# Altium integrated library TI Power Management Power Supply Support.IntLib: 88 symbols (part 2 of 4)
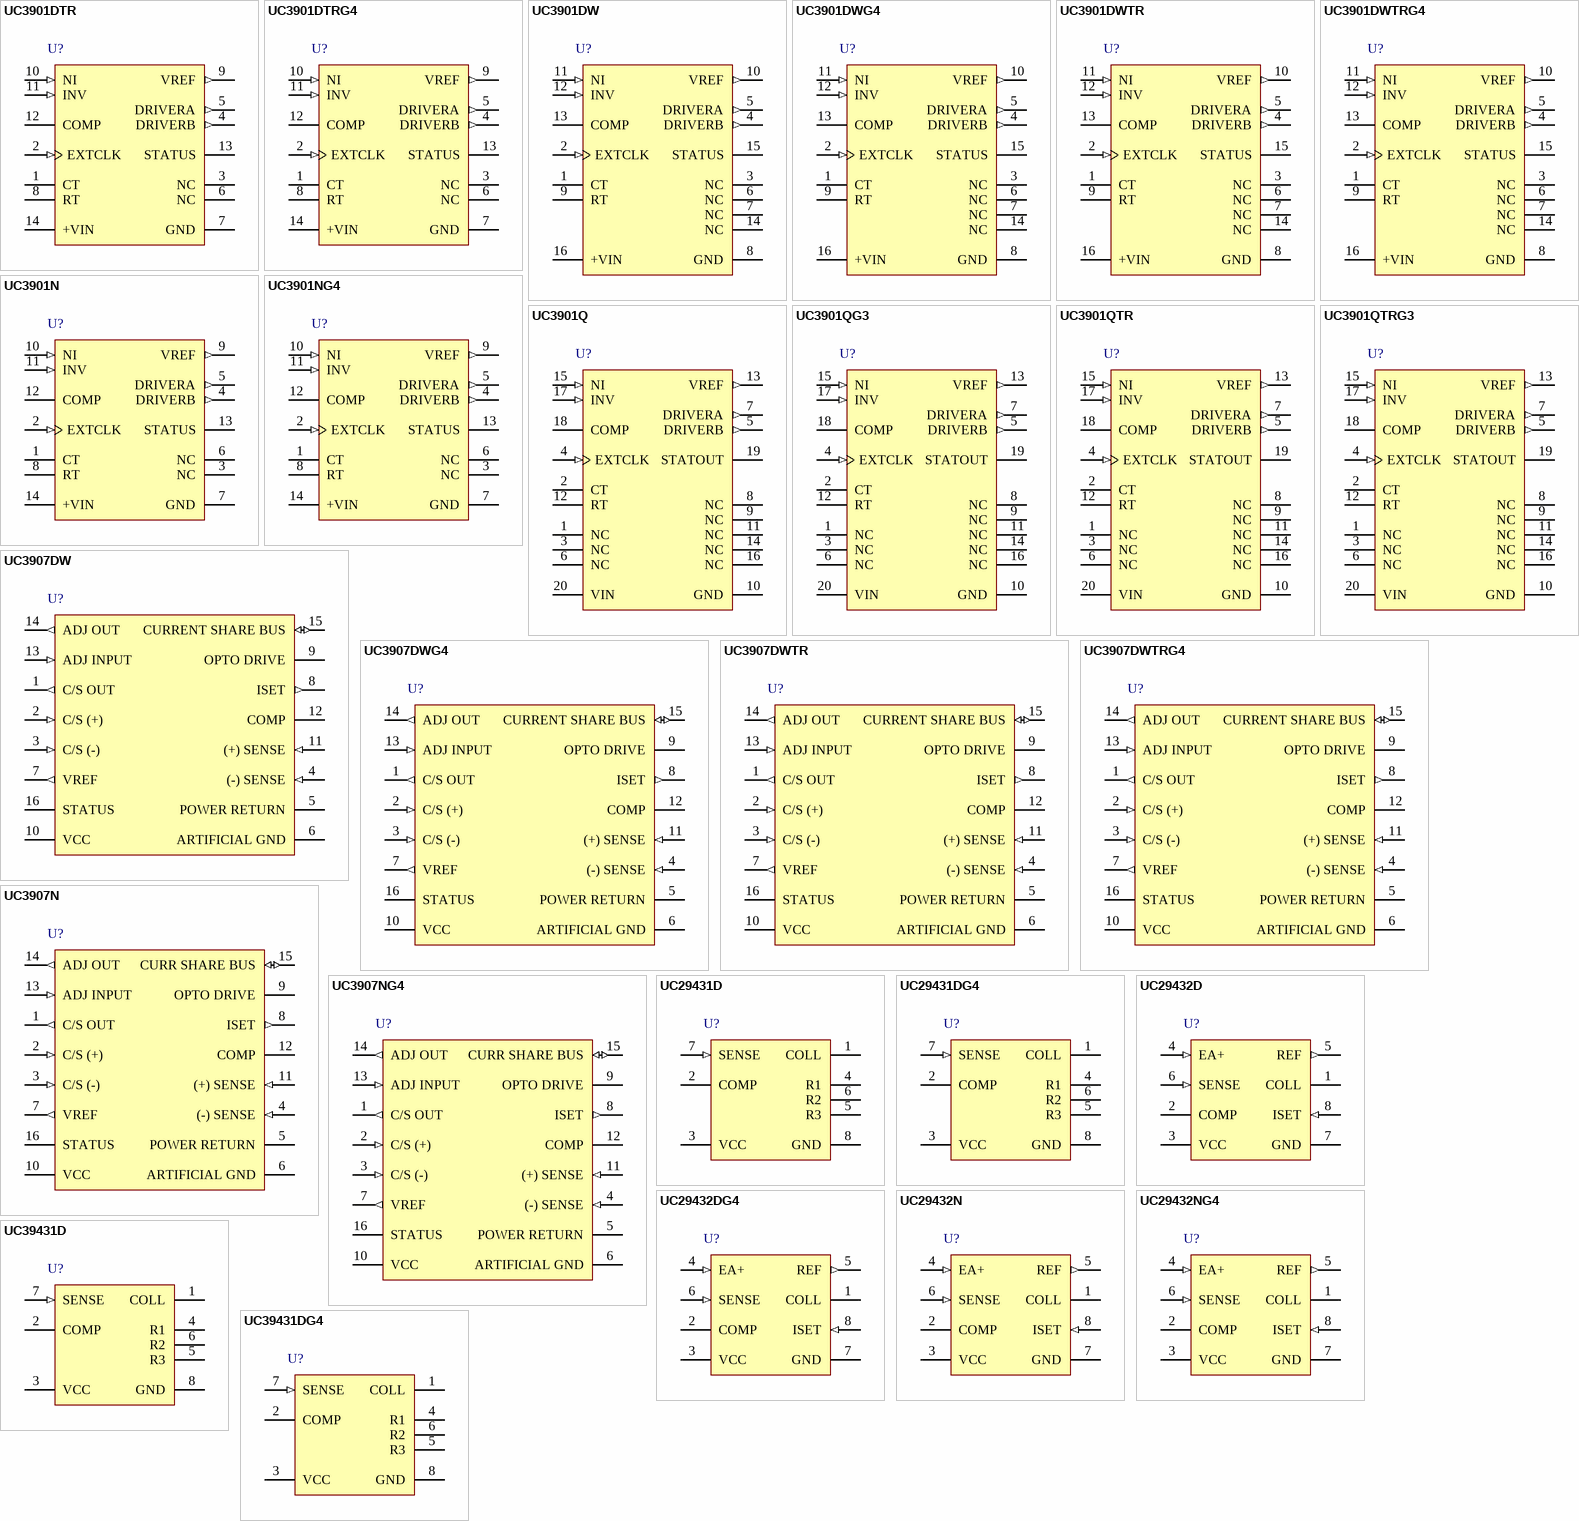
[diagram p3: symbols UC3901DTR to UC39431DG4]

## UC3901QTR
designator U?
Isolated Feedback Generator, 4.5 to 40 V, 0 to 70 degC, 20-pin PLCC (FN), Green (RoHS & no Sb/Br); Manufacturer: Texas Instruments; PartNumber: UC3901QTR; On Board Oscillator: Useable to 5 MHz; On Board Reference: Yes; Operating Supply Current(mA): 5; Operating Supply(Max)(V): 40; Operating Supply(Min)(V): 4.5; Output Current(A): 0.035; Rating: Catalog; Reference Voltage(V): 1.5; UVLO: TRUE; Vref tol(%): 3; DatasheetVersion: SLUS279A; PackageVersion: revB, Mar-1995; PackageReference: FN20; PackageDescription: 20-Pin Plastic Leaded Chip Carrier, 1.27 mm Pitch; Supplier 1: Digi-Key; Supplier Part Number 1: UC3901QTR-ND; Supplier 2: Newark; Supplier Part Number 2: 77C3456; Supplier 3: Mouser; Supplier Part Number 3: 595-UC3901QTR; Mounting Technology: Surface Mount; Code_JEDEC: MS-018; ComponentLink1Description: Datasheet; ComponentLink1URL: http://www.ti.com/general/docs/lit/getliterature.tsp?genericPartNumber=UC3901&fileType=pdf
footprint FN20_N (Leaded Chip Carrier, 20-Leads, Body 9x9mm, Pitch 1.27mm, IPC Medium Density)
footprint FN20_L (Leaded Chip Carrier, 20-Leads, Body 9x9mm, Pitch 1.27mm, IPC High Density)
footprint FN20_M (Leaded Chip Carrier, 20-Leads, Body 9x9mm, Pitch 1.27mm, IPC Low Density)
pins: 1 NC, 2 CT, 3 NC, 4 EXTCLK (in), 5 DRIVERB (out), 6 NC, 7 DRIVERA (out), 8 NC, 9 NC, 10 GND (power), 11 NC, 12 RT, 13 VREF (out), 14 NC, 15 NI (in), 16 NC, 17 INV (in), 18 COMP, 19 STATOUT (oc), 20 VIN (power)

## UC3901QTRG3
designator U?
Isolated Feedback Generator, 4.5 to 40 V, 0 to 70 degC, 20-pin PLCC (FN), Green (RoHS & no Sb/Br); Manufacturer: Texas Instruments; PartNumber: UC3901QTRG3; On Board Oscillator: Useable to 5 MHz; On Board Reference: Yes; Operating Supply Current(mA): 5; Operating Supply(Max)(V): 40; Operating Supply(Min)(V): 4.5; Output Current(A): 0.035; Rating: Catalog; Reference Voltage(V): 1.5; UVLO: TRUE; Vref tol(%): 3; DatasheetVersion: SLUS279A; PackageVersion: revB, Mar-1995; PackageReference: FN20; PackageDescription: 20-Pin Plastic Leaded Chip Carrier, 1.27 mm Pitch; Supplier 1: Digi-Key; Supplier Part Number 1: UC3901QTRG3-ND; Supplier 2: Newark; Supplier Part Number 2: 70K6035; Supplier 3: Mouser; Supplier Part Number 3: 595-UC3901QTRG3; Mounting Technology: Surface Mount; Code_JEDEC: MS-018; ComponentLink1Description: Datasheet; ComponentLink1URL: http://www.ti.com/general/docs/lit/getliterature.tsp?genericPartNumber=UC3901&fileType=pdf
footprint FN20_N (Leaded Chip Carrier, 20-Leads, Body 9x9mm, Pitch 1.27mm, IPC Medium Density)
footprint FN20_L (Leaded Chip Carrier, 20-Leads, Body 9x9mm, Pitch 1.27mm, IPC High Density)
footprint FN20_M (Leaded Chip Carrier, 20-Leads, Body 9x9mm, Pitch 1.27mm, IPC Low Density)
pins: 1 NC, 2 CT, 3 NC, 4 EXTCLK (in), 5 DRIVERB (out), 6 NC, 7 DRIVERA (out), 8 NC, 9 NC, 10 GND (power), 11 NC, 12 RT, 13 VREF (out), 14 NC, 15 NI (in), 16 NC, 17 INV (in), 18 COMP, 19 STATOUT (oc), 20 VIN (power)

## UC3907DW
designator U?
Load Share Controller with on Board Ref, 4.5 to 36 V Supply, 0 to 70 degC, 16-pin SOIC (DW), Green (RoHS & no Sb/Br); Manufacturer: Texas Instruments; PartNumber: UC3907DW; On Board Reference: TRUE; Operating Supply Current(mA): 6; Operating Supply(Max)(V): 36; Operating Supply(Min)(V): 4.5; Rating: Military; Share Bus: Single-Ended; Startup Current(uA): 3000; DatasheetVersion: SLUS165C; PackageVersion: revG, Jan-2011; PackageReference: DW16; PackageDescription: 16-Pin Small Outline Integrated Circuit, 10.3 x 7.5 mm, Pitch 1.27 mm Pitch; Supplier 1: Digi-Key; Supplier Part Number 1: 296-2530-5-ND; Supplier 2: Newark; Supplier Part Number 2: 77C3472; Supplier 3: Mouser; Supplier Part Number 3: 595-UC3907DW; Eco-Plan: Green (RoHS & no Sb/Br); SubFamily: Load Share; Mounting Technology: Surface Mount; Code_JEDEC: MS-013-AA; ComponentLink1Description: Datasheet; ComponentLink1URL: http://www.ti.com/general/docs/lit/getliterature.tsp?genericPartNumber=UC3907&fileType=pdf
footprint DW16_N (SOIC, 16-Leads, Body 10.3x7.5mm, Pitch 1.27mm, IPC Medium Density)
footprint DW16_L (SOIC, 16-Leads, Body 10.3x7.5mm, Pitch 1.27mm, IPC High Density)
footprint DW16_M (SOIC, 16-Leads, Body 10.3x7.5mm, Pitch 1.27mm, IPC Low Density)
pins: 1 C/S OUT (out), 2 C/S (+) (in), 3 C/S (-) (in), 4 (-) SENSE (in), 5 POWER RETURN, 6 ARTIFICIAL GND (power), 7 VREF (out), 8 ISET (out), 9 OPTO DRIVE (oc), 10 VCC (power), 11 (+) SENSE (in), 12 COMP, 13 ADJ INPUT (in), 14 ADJ OUT (out), 15 CURRENT SHARE BUS (io), 16 STATUS (oc)

## UC3907DWG4
designator U?
Load Share Controller with on Board Ref, 4.5 to 36 V Supply, 0 to 70 degC, 16-pin SOIC (DW), Green (RoHS & no Sb/Br); Manufacturer: Texas Instruments; PartNumber: UC3907DWG4; On Board Reference: TRUE; Operating Supply Current(mA): 6; Operating Supply(Max)(V): 36; Operating Supply(Min)(V): 4.5; Rating: Military; Share Bus: Single-Ended; Startup Current(uA): 3000; DatasheetVersion: SLUS165C; PackageVersion: revG, Jan-2011; PackageReference: DW16; PackageDescription: 16-Pin Small Outline Integrated Circuit, 10.3 x 7.5 mm, Pitch 1.27 mm Pitch; Supplier 1: Digi-Key; Supplier Part Number 1: UC3907DWG4-ND; Supplier 2: Newark; Supplier Part Number 2: 66K4934; Supplier 3: Mouser; Supplier Part Number 3: 595-UC3907DWG4; Eco-Plan: Green (RoHS & no Sb/Br); SubFamily: Load Share; Mounting Technology: Surface Mount; Code_JEDEC: MS-013-AA; ComponentLink1Description: Datasheet; ComponentLink1URL: http://www.ti.com/general/docs/lit/getliterature.tsp?genericPartNumber=UC3907&fileType=pdf
footprint DW16_N (SOIC, 16-Leads, Body 10.3x7.5mm, Pitch 1.27mm, IPC Medium Density)
footprint DW16_L (SOIC, 16-Leads, Body 10.3x7.5mm, Pitch 1.27mm, IPC High Density)
footprint DW16_M (SOIC, 16-Leads, Body 10.3x7.5mm, Pitch 1.27mm, IPC Low Density)
pins: 1 C/S OUT (out), 2 C/S (+) (in), 3 C/S (-) (in), 4 (-) SENSE (in), 5 POWER RETURN, 6 ARTIFICIAL GND (power), 7 VREF (out), 8 ISET (out), 9 OPTO DRIVE (oc), 10 VCC (power), 11 (+) SENSE (in), 12 COMP, 13 ADJ INPUT (in), 14 ADJ OUT (out), 15 CURRENT SHARE BUS (io), 16 STATUS (oc)

## UC3907DWTR
designator U?
Load Share Controller with on Board Ref, 4.5 to 36 V Supply, 0 to 70 degC, 16-pin SOIC (DW), Green (RoHS & no Sb/Br); Manufacturer: Texas Instruments; PartNumber: UC3907DWTR; On Board Reference: TRUE; Operating Supply Current(mA): 6; Operating Supply(Max)(V): 36; Operating Supply(Min)(V): 4.5; Rating: Military; Share Bus: Single-Ended; Startup Current(uA): 3000; DatasheetVersion: SLUS165C; PackageVersion: revG, Jan-2011; PackageReference: DW16; PackageDescription: 16-Pin Small Outline Integrated Circuit, 10.3 x 7.5 mm, Pitch 1.27 mm Pitch; Supplier 1: Digi-Key; Supplier Part Number 1: UC3907DWTR-ND; Supplier 2: Newark; Supplier Part Number 2: 77C3473; Supplier 3: Mouser; Supplier Part Number 3: 595-UC3907DWTR; Eco-Plan: Green (RoHS & no Sb/Br); SubFamily: Load Share; Mounting Technology: Surface Mount; Code_JEDEC: MS-013-AA; ComponentLink1Description: Datasheet; ComponentLink1URL: http://www.ti.com/general/docs/lit/getliterature.tsp?genericPartNumber=UC3907&fileType=pdf
footprint DW16_N (SOIC, 16-Leads, Body 10.3x7.5mm, Pitch 1.27mm, IPC Medium Density)
footprint DW16_L (SOIC, 16-Leads, Body 10.3x7.5mm, Pitch 1.27mm, IPC High Density)
footprint DW16_M (SOIC, 16-Leads, Body 10.3x7.5mm, Pitch 1.27mm, IPC Low Density)
pins: 1 C/S OUT (out), 2 C/S (+) (in), 3 C/S (-) (in), 4 (-) SENSE (in), 5 POWER RETURN, 6 ARTIFICIAL GND (power), 7 VREF (out), 8 ISET (out), 9 OPTO DRIVE (oc), 10 VCC (power), 11 (+) SENSE (in), 12 COMP, 13 ADJ INPUT (in), 14 ADJ OUT (out), 15 CURRENT SHARE BUS (io), 16 STATUS (oc)

## UC3907DWTRG4
designator U?
Load Share Controller with on Board Ref, 4.5 to 36 V Supply, 0 to 70 degC, 16-pin SOIC (DW), Green (RoHS & no Sb/Br); Manufacturer: Texas Instruments; PartNumber: UC3907DWTRG4; On Board Reference: TRUE; Operating Supply Current(mA): 6; Operating Supply(Max)(V): 36; Operating Supply(Min)(V): 4.5; Rating: Military; Share Bus: Single-Ended; Startup Current(uA): 3000; DatasheetVersion: SLUS165C; PackageVersion: revG, Jan-2011; PackageReference: DW16; PackageDescription: 16-Pin Small Outline Integrated Circuit, 10.3 x 7.5 mm, Pitch 1.27 mm Pitch; Supplier 1: Digi-Key; Supplier Part Number 1: UC3907DWTRG4-ND; Supplier 2: Newark; Supplier Part Number 2: 71J8483; Supplier 3: Mouser; Supplier Part Number 3: 595-UC3907DWTRG4; Eco-Plan: Green (RoHS & no Sb/Br); SubFamily: Load Share; Mounting Technology: Surface Mount; Code_JEDEC: MS-013-AA; ComponentLink1Description: Datasheet; ComponentLink1URL: http://www.ti.com/general/docs/lit/getliterature.tsp?genericPartNumber=UC3907&fileType=pdf
footprint DW16_N (SOIC, 16-Leads, Body 10.3x7.5mm, Pitch 1.27mm, IPC Medium Density)
footprint DW16_L (SOIC, 16-Leads, Body 10.3x7.5mm, Pitch 1.27mm, IPC High Density)
footprint DW16_M (SOIC, 16-Leads, Body 10.3x7.5mm, Pitch 1.27mm, IPC Low Density)
pins: 1 C/S OUT (out), 2 C/S (+) (in), 3 C/S (-) (in), 4 (-) SENSE (in), 5 POWER RETURN, 6 ARTIFICIAL GND (power), 7 VREF (out), 8 ISET (out), 9 OPTO DRIVE (oc), 10 VCC (power), 11 (+) SENSE (in), 12 COMP, 13 ADJ INPUT (in), 14 ADJ OUT (out), 15 CURRENT SHARE BUS (io), 16 STATUS (oc)

## UC3907N
designator U?
Load Share Controller with on Board Ref, 4.5 to 36 V Supply, 0 to 70 degC, 16-pin PDIP (N), Green (RoHS & no Sb/Br); Manufacturer: Texas Instruments; PartNumber: UC3907N; On Board Reference: TRUE; Operating Supply Current(mA): 6; Operating Supply(Max)(V): 36; Operating Supply(Min)(V): 4.5; Rating: Military; Share Bus: Single-Ended; Startup Current(uA): 3000; DatasheetVersion: SLUS165C; PackageVersion: revE, Dec-2002; PackageReference: N16; PackageDescription: 16-Pin Plastic Dual-In-Line Package, Row Spacing 7.62 mm, Pitch 2.54 mm; Supplier 1: Digi-Key; Supplier Part Number 1: 296-11344-5-ND; Supplier 2: Newark; Supplier Part Number 2: 77C3474; Supplier 3: Mouser; Supplier Part Number 3: 595-UC3907N; Eco-Plan: Green (RoHS & no Sb/Br); SubFamily: Load Share; Mounting Technology: Through Hole; Code_JEDEC: MS-001*; ComponentLink1Description: Datasheet; ComponentLink1URL: http://www.ti.com/general/docs/lit/getliterature.tsp?genericPartNumber=UC3907&fileType=pdf
footprint N16 (DIP, 16-Leads, Row Spacing 7.62mm, Pitch 2.54mm, Body 19.3x6.4mm)
pins: 1 C/S OUT (out), 2 C/S (+) (in), 3 C/S (-) (in), 4 (-) SENSE (in), 5 POWER RETURN, 6 ARTIFICIAL GND (power), 7 VREF (out), 8 ISET (out), 9 OPTO DRIVE (oc), 10 VCC (power), 11 (+) SENSE (in), 12 COMP, 13 ADJ INPUT (in), 14 ADJ OUT (out), 15 CURR SHARE BUS (io), 16 STATUS (oc)

## UC3907NG4
designator U?
Load Share Controller with on Board Ref, 4.5 to 36 V Supply, 0 to 70 degC, 16-pin PDIP (N), Green (RoHS & no Sb/Br); Manufacturer: Texas Instruments; PartNumber: UC3907NG4; On Board Reference: TRUE; Operating Supply Current(mA): 6; Operating Supply(Max)(V): 36; Operating Supply(Min)(V): 4.5; Rating: Military; Share Bus: Single-Ended; Startup Current(uA): 3000; DatasheetVersion: SLUS165C; PackageVersion: revE, Dec-2002; PackageReference: N16; PackageDescription: 16-Pin Plastic Dual-In-Line Package, Row Spacing 7.62 mm, Pitch 2.54 mm; Supplier 1: Digi-Key; Supplier Part Number 1: UC3907NG4-ND; Supplier 2: Farnell; Supplier Part Number 2: 1234802; Supplier 3: Newark; Supplier Part Number 3: 13M3408; Supplier 4: Newark; Supplier Part Number 4: 58K7140; Supplier 5: Mouser; Supplier Part Number 5: 595-UC3907NG4; Eco-Plan: Green (RoHS & no Sb/Br); SubFamily: Load Share; Mounting Technology: Through Hole; Code_JEDEC: MS-001*; ComponentLink1Description: Datasheet; ComponentLink1URL: http://www.ti.com/general/docs/lit/getliterature.tsp?genericPartNumber=UC3907&fileType=pdf
footprint N16 (DIP, 16-Leads, Row Spacing 7.62mm, Pitch 2.54mm, Body 19.3x6.4mm)
pins: 1 C/S OUT (out), 2 C/S (+) (in), 3 C/S (-) (in), 4 (-) SENSE (in), 5 POWER RETURN, 6 ARTIFICIAL GND (power), 7 VREF (out), 8 ISET (out), 9 OPTO DRIVE (oc), 10 VCC (power), 11 (+) SENSE (in), 12 COMP, 13 ADJ INPUT (in), 14 ADJ OUT (out), 15 CURR SHARE BUS (io), 16 STATUS (oc)

## UC29431D
designator U?
Precision Adjustable Shunt Regulator, 2.2 to 36 V, -40 to 85 degC, 8-pin SOIC (D), Green (RoHS & no Sb/Br); Manufacturer: Texas Instruments; PartNumber: UC29431D; On Board Reference: 2.82, 3.12, 5.1, 7.8, 10.42, 12.24/0.7%; Operating Supply Current(mA): 0.5; Operating Supply(Max)(V): 36; Operating Supply(Min)(V): 2.2; Output Current(A): 0.1; Rating: Catalog; Reference Voltage(V): 1.3; Vref tol(%): 0.8; DatasheetVersion: SLUS192; PackageVersion: revM, Jun-2011; PackageReference: D8; PackageDescription: 8-Pin Plastic Small Outline Integrated Circuit, 4.9 x 3.9 mm, Pitch 1.27 mm Pitch; Supplier 1: Digi-Key; Supplier Part Number 1: 296-11209-5-ND; Supplier 2: Newark; Supplier Part Number 2: 77C3109; Supplier 3: Mouser; Supplier Part Number 3: 595-UC29431D; Mounting Technology: Surface Mount; Code_JEDEC: MS-012AA; ComponentLink1Description: Datasheet; ComponentLink1URL: http://www.ti.com/general/docs/lit/getliterature.tsp?genericPartNumber=UC29431&fileType=pdf
footprint D8_N (SOIC, 8-Leads, Body 4.9x3.9mm, Pitch 1.27mm, IPC Medium Density)
footprint D8_L (SOIC, 8-Leads, Body 4.9x3.9mm, Pitch 1.27mm, IPC High Density)
footprint D8_M (SOIC, 8-Leads, Body 4.9x3.9mm, Pitch 1.27mm, IPC Low Density)
pins: 1 COLL (oc) "The collector of the output transistor with a maximum voltage of 36V. This pin is the output of the transconductance amplifier. The overall open loop voltage gain of the transconductance amplifier is gm . RL, where gm is (See Datasheet)", 2 COMP "The output of the error amplifier and the input to the transconductance amplifier. This pin is available to compensate the high frequency gain of the error amplifier. It is internally voltage limited to approximately 2.0V.", 3 VCC (power) "The power connection for the device. The minimum to maximum operating voltage is 2.2V to 36.0V. The quiescent current is typically 0.50mA.", 4 R1 "Connection points to the three internal resistors.", 5 R3 "Connection points to the three internal resistors.", 6 R2 "Connection points to the three internal resistors.", 7 SENSE (in) "The inverting terminal of the error amplifier used as both the voltage sense input to the error amplifier and its other compensation point. The error amplifier uses the SENSE input to compare against the 1.3V on-chip (See Datasheet)", 8 GND (power) "The reference and power ground for the device. The power ground of the output transistor is isolated on the chip from the substrate ground used to bias the remainder of the device."

## UC29431DG4
designator U?
Precision Adjustable Shunt Regulator, 2.2 to 36 V, -40 to 85 degC, 8-pin SOIC (D), Green (RoHS & no Sb/Br); Manufacturer: Texas Instruments; PartNumber: UC29431DG4; On Board Reference: 2.82, 3.12, 5.1, 7.8, 10.42, 12.24/0.7%; Operating Supply Current(mA): 0.5; Operating Supply(Max)(V): 36; Operating Supply(Min)(V): 2.2; Output Current(A): 0.1; Rating: Catalog; Reference Voltage(V): 1.3; Vref tol(%): 0.8; DatasheetVersion: SLUS192; PackageVersion: revM, Jun-2011; PackageReference: D8; PackageDescription: 8-Pin Plastic Small Outline Integrated Circuit, 4.9 x 3.9 mm, Pitch 1.27 mm Pitch; Supplier 1: Digi-Key; Supplier Part Number 1: UC29431DG4-ND; Supplier 2: Newark; Supplier Part Number 2: 70K5992; Supplier 3: Mouser; Supplier Part Number 3: 595-UC29431DG4; Mounting Technology: Surface Mount; Code_JEDEC: MS-012AA; ComponentLink1Description: Datasheet; ComponentLink1URL: http://www.ti.com/general/docs/lit/getliterature.tsp?genericPartNumber=UC29431&fileType=pdf
footprint D8_N (SOIC, 8-Leads, Body 4.9x3.9mm, Pitch 1.27mm, IPC Medium Density)
footprint D8_L (SOIC, 8-Leads, Body 4.9x3.9mm, Pitch 1.27mm, IPC High Density)
footprint D8_M (SOIC, 8-Leads, Body 4.9x3.9mm, Pitch 1.27mm, IPC Low Density)
pins: 1 COLL (oc) "The collector of the output transistor with a maximum voltage of 36V. This pin is the output of the transconductance amplifier. The overall open loop voltage gain of the transconductance amplifier is gm . RL, where gm is (See Datasheet)", 2 COMP "The output of the error amplifier and the input to the transconductance amplifier. This pin is available to compensate the high frequency gain of the error amplifier. It is internally voltage limited to approximately 2.0V.", 3 VCC (power) "The power connection for the device. The minimum to maximum operating voltage is 2.2V to 36.0V. The quiescent current is typically 0.50mA.", 4 R1 "Connection points to the three internal resistors.", 5 R3 "Connection points to the three internal resistors.", 6 R2 "Connection points to the three internal resistors.", 7 SENSE (in) "The inverting terminal of the error amplifier used as both the voltage sense input to the error amplifier and its other compensation point. The error amplifier uses the SENSE input to compare against the 1.3V on-chip (See Datasheet)", 8 GND (power) "The reference and power ground for the device. The power ground of the output transistor is isolated on the chip from the substrate ground used to bias the remainder of the device."

## UC29432D
designator U?
Precision Analog Controller, 2.2 to 36 V, -25 to 85 degC, 8-pin SOIC (D), Green (RoHS & no Sb/Br); Manufacturer: Texas Instruments; PartNumber: UC29432D; On Board Reference: 1.3; Operating Supply Current(mA): 0.5; Operating Supply(Max)(V): 36; Operating Supply(Min)(V): 2.2; Output Current(A): 0.1; Rating: Catalog; Vref tol(%): 0.8; DatasheetVersion: SLUS301A; PackageVersion: revM, Jun-2011; PackageReference: D8; PackageDescription: 8-Pin Plastic Small Outline Integrated Circuit, 4.9 x 3.9 mm, Pitch 1.27 mm Pitch; Supplier 1: Digi-Key; Supplier Part Number 1: 296-34734-5-ND; Supplier 2: Newark; Supplier Part Number 2: 77C3111; Supplier 3: Mouser; Supplier Part Number 3: 595-UC29432D; Reference Voltage(V): 1.3; Mounting Technology: Surface Mount; Code_JEDEC: MS-012AA; ComponentLink1Description: Datasheet; ComponentLink1URL: http://www.ti.com/general/docs/lit/getliterature.tsp?genericPartNumber=UC29432&fileType=pdf
footprint D8_N (SOIC, 8-Leads, Body 4.9x3.9mm, Pitch 1.27mm, IPC Medium Density)
footprint D8_L (SOIC, 8-Leads, Body 4.9x3.9mm, Pitch 1.27mm, IPC High Density)
footprint D8_M (SOIC, 8-Leads, Body 4.9x3.9mm, Pitch 1.27mm, IPC Low Density)
pins: 1 COLL (oc) "The collector of the output transistor with a maximum voltage of 24 V. This pin is the output of the transconductance amplifier. The overall open loop voltage gain of the transconductance amplifier is gm . RL, where gm is (See Datasheet)", 2 COMP "The output of the error amplifier and the input to the transconductance amplifier. This pin is available to compensate the high frequency gain of the error amplifier. It is internally voltage limited to approximately 2.0V.", 3 VCC (power) "The power connection for the device. The minimum to maximum operating voltage is 2.2V to 36.0V. The quiescent current is typically 0.50mA.", 4 EA+ (in) "The non-inverting input to the error amplifier.", 5 REF (out) "The output of the trimmed precision reference.It can source or sink 10 uA and still maintain the 1% temperature specification.", 6 SENSE (in) "The inverting terminal of the error amplifier used as both the voltage sense input to the error amplifier and its other compensation point. The error amplifier uses the SENSE input to compare against the 1.3V on-chip (See Datasheet)", 7 GND (power) "The reference and power ground for the device. The power ground of the output transistor is isolated on the chip from the substrate ground used to bias the remainder of the device.", 8 ISET (in) "The current set pin for the transconductance amplifier.The transconductance will be -140ms as specified in the electrical table if this pin is grounded.If a resistance RL is added to the ISET pin,the resulting new (See Datasheet)"

## UC29432DG4
designator U?
Precision Analog Controller, 2.2 to 36 V, -25 to 85 degC, 8-pin SOIC (D), Green (RoHS & no Sb/Br); Manufacturer: Texas Instruments; PartNumber: UC29432DG4; On Board Reference: 1.3; Operating Supply Current(mA): 0.5; Operating Supply(Max)(V): 36; Operating Supply(Min)(V): 2.2; Output Current(A): 0.1; Rating: Catalog; Vref tol(%): 0.8; DatasheetVersion: SLUS301A; PackageVersion: revM, Jun-2011; PackageReference: D8; PackageDescription: 8-Pin Plastic Small Outline Integrated Circuit, 4.9 x 3.9 mm, Pitch 1.27 mm Pitch; Supplier 1: Digi-Key; Supplier Part Number 1: UC29432DG4-ND; Supplier 2: Newark; Supplier Part Number 2: 70K5993; Supplier 3: Mouser; Supplier Part Number 3: 595-UC29432DG4; Reference Voltage(V): 1.3; Mounting Technology: Surface Mount; Code_JEDEC: MS-012AA; ComponentLink1Description: Datasheet; ComponentLink1URL: http://www.ti.com/general/docs/lit/getliterature.tsp?genericPartNumber=UC29432&fileType=pdf
footprint D8_N (SOIC, 8-Leads, Body 4.9x3.9mm, Pitch 1.27mm, IPC Medium Density)
footprint D8_L (SOIC, 8-Leads, Body 4.9x3.9mm, Pitch 1.27mm, IPC High Density)
footprint D8_M (SOIC, 8-Leads, Body 4.9x3.9mm, Pitch 1.27mm, IPC Low Density)
pins: 1 COLL (oc) "The collector of the output transistor with a maximum voltage of 24 V. This pin is the output of the transconductance amplifier. The overall open loop voltage gain of the transconductance amplifier is gm . RL, where gm is (See Datasheet)", 2 COMP "The output of the error amplifier and the input to the transconductance amplifier. This pin is available to compensate the high frequency gain of the error amplifier. It is internally voltage limited to approximately 2.0V.", 3 VCC (power) "The power connection for the device. The minimum to maximum operating voltage is 2.2V to 36.0V. The quiescent current is typically 0.50mA.", 4 EA+ (in) "The non-inverting input to the error amplifier.", 5 REF (out) "The output of the trimmed precision reference.It can source or sink 10 uA and still maintain the 1% temperature specification.", 6 SENSE (in) "The inverting terminal of the error amplifier used as both the voltage sense input to the error amplifier and its other compensation point. The error amplifier uses the SENSE input to compare against the 1.3V on-chip (See Datasheet)", 7 GND (power) "The reference and power ground for the device. The power ground of the output transistor is isolated on the chip from the substrate ground used to bias the remainder of the device.", 8 ISET (in) "The current set pin for the transconductance amplifier.The transconductance will be -140ms as specified in the electrical table if this pin is grounded.If a resistance RL is added to the ISET pin,the resulting new (See Datasheet)"

## UC29432N
designator U?
Precision Analog Controller, 2.2 to 36 V, -25 to 85 degC, 8-pin PDIP (P), Green (RoHS & no Sb/Br); Manufacturer: Texas Instruments; PartNumber: UC29432N; On Board Reference: 1.3; Operating Supply Current(mA): 0.5; Operating Supply(Max)(V): 36; Operating Supply(Min)(V): 2.2; Output Current(A): 0.1; Rating: Catalog; Vref tol(%): 0.8; DatasheetVersion: SLUS301A; PackageVersion: revE, Apr-2010; PackageReference: P8; PackageDescription: 8-Pin Plastic Dual-In-Line Package, Row Spacing 7.62 mm, Pitch 2.54 mm; Supplier 1: Digi-Key; Supplier Part Number 1: 296-34735-5-ND; Supplier 2: Newark; Supplier Part Number 2: 77C3113; Supplier 3: Mouser; Supplier Part Number 3: 595-UC29432N; Reference Voltage(V): 1.3; Mounting Technology: Through Hole; Code_JEDEC: MS-001-BA; ComponentLink1Description: Datasheet; ComponentLink1URL: http://www.ti.com/general/docs/lit/getliterature.tsp?genericPartNumber=UC29432&fileType=pdf
footprint P8 (DIP, 8-Leads, Row Spacing 7.62mm, Pitch 2.54mm, Body 9.6x6.4mm)
pins: 1 COLL (oc) "The collector of the output transistor with a maximum voltage of 24V. This pin is the output of the transconductance amplifier. The overall open loop voltage gain of the transconductance amplifier is gm . RL, where gm is (See Datasheet)", 2 COMP "The output of the error amplifier and the input to the transconductance amplifier. This pin is available to compensate the high frequency gain of the error amplifier. It is internally voltage limited to approximately 2.0V.", 3 VCC (power) "The power connection for the device. The minimum to maximum operating voltage is 2.2V to 36.0V. The quiescent current is typically 0.50mA.", 4 EA+ (in) "The non-inverting input to the error amplifier.", 5 REF (out) "The output of the trimmed precision reference.It can source or sink 10 uA and still maintain the 1% temperature specification.", 6 SENSE (in) "The inverting terminal of the error amplifier used as both the voltage sense input to the error amplifier and its other compensation point. The error amplifier uses the SENSE input to compare against the 1.3V on-chip (See Datasheet)", 7 GND (power) "The reference and power ground for the device. The power ground of the output transistor is isolated on the chip from the substrate ground used to bias the remainder of the device.", 8 ISET (in) "The current set pin for the transconductance amplifier."

## UC29432NG4
designator U?
Precision Analog Controller, 2.2 to 36 V, -25 to 85 degC, 8-pin PDIP (P), Green (RoHS & no Sb/Br); Manufacturer: Texas Instruments; PartNumber: UC29432NG4; On Board Reference: 1.3; Operating Supply Current(mA): 0.5; Operating Supply(Max)(V): 36; Operating Supply(Min)(V): 2.2; Output Current(A): 0.1; Rating: Catalog; Vref tol(%): 0.8; DatasheetVersion: SLUS301A; PackageVersion: revE, Apr-2010; PackageReference: P8; PackageDescription: 8-Pin Plastic Dual-In-Line Package, Row Spacing 7.62 mm, Pitch 2.54 mm; Supplier 1: Digi-Key; Supplier Part Number 1: UC29432NG4-ND; Supplier 2: Newark; Supplier Part Number 2: 70K5994; Supplier 3: Mouser; Supplier Part Number 3: 595-UC29432NG4; Reference Voltage(V): 1.3; Mounting Technology: Through Hole; Code_JEDEC: MS-001-BA; ComponentLink1Description: Datasheet; ComponentLink1URL: http://www.ti.com/general/docs/lit/getliterature.tsp?genericPartNumber=UC29432&fileType=pdf
footprint P8 (DIP, 8-Leads, Row Spacing 7.62mm, Pitch 2.54mm, Body 9.6x6.4mm)
pins: 1 COLL (oc) "The collector of the output transistor with a maximum voltage of 24V. This pin is the output of the transconductance amplifier. The overall open loop voltage gain of the transconductance amplifier is gm . RL, where gm is (See Datasheet)", 2 COMP "The output of the error amplifier and the input to the transconductance amplifier. This pin is available to compensate the high frequency gain of the error amplifier. It is internally voltage limited to approximately 2.0V.", 3 VCC (power) "The power connection for the device. The minimum to maximum operating voltage is 2.2V to 36.0V. The quiescent current is typically 0.50mA.", 4 EA+ (in) "The non-inverting input to the error amplifier.", 5 REF (out) "The output of the trimmed precision reference.It can source or sink 10 uA and still maintain the 1% temperature specification.", 6 SENSE (in) "The inverting terminal of the error amplifier used as both the voltage sense input to the error amplifier and its other compensation point. The error amplifier uses the SENSE input to compare against the 1.3V on-chip (See Datasheet)", 7 GND (power) "The reference and power ground for the device. The power ground of the output transistor is isolated on the chip from the substrate ground used to bias the remainder of the device.", 8 ISET (in) "The current set pin for the transconductance amplifier."

## UC39431D
designator U?
Precision Adjustable Shunt Regulator, 2.2 to 36 V, 0 to 70 degC, 8-pin SOIC (D), Green (RoHS & no Sb/Br); Manufacturer: Texas Instruments; PartNumber: UC39431D; On Board Reference: 2.82, 3.12, 5.1, 7.8, 10.42, 12.24/0.7%; Operating Supply Current(mA): 0.5; Operating Supply(Max)(V): 36; Operating Supply(Min)(V): 2.2; Output Current(A): 0.1; Rating: Catalog; Reference Voltage(V): 1.3; Vref tol(%): 0.8; DatasheetVersion: SLUS192; PackageVersion: revM, Jun-2011; PackageReference: D8; PackageDescription: 8-Pin Plastic Small Outline Integrated Circuit, 4.9 x 3.9 mm, Pitch 1.27 mm Pitch; Supplier 1: Digi-Key; Supplier Part Number 1: 296-11348-5-ND; Supplier 2: Newark; Supplier Part Number 2: 77C3486; Supplier 3: Mouser; Supplier Part Number 3: 595-UC39431D; Mounting Technology: Surface Mount; Code_JEDEC: MS-012AA; ComponentLink1Description: Datasheet; ComponentLink1URL: http://www.ti.com/general/docs/lit/getliterature.tsp?genericPartNumber=UC39431&fileType=pdf
footprint D8_N (SOIC, 8-Leads, Body 4.9x3.9mm, Pitch 1.27mm, IPC Medium Density)
footprint D8_L (SOIC, 8-Leads, Body 4.9x3.9mm, Pitch 1.27mm, IPC High Density)
footprint D8_M (SOIC, 8-Leads, Body 4.9x3.9mm, Pitch 1.27mm, IPC Low Density)
pins: 1 COLL (oc) "The collector of the output transistor with a maximum voltage of 36V. This pin is the output of the transconductance amplifier. The overall open loop voltage gain of the transconductance amplifier is gm . RL, where gm is (See Datasheet)", 2 COMP "The output of the error amplifier and the input to the transconductance amplifier. This pin is available to compensate the high frequency gain of the error amplifier. It is internally voltage limited to approximately 2.0V.", 3 VCC (power) "The power connection for the device. The minimum to maximum operating voltage is 2.2V to 36.0V. The quiescent current is typically 0.50mA.", 4 R1 "Connection points to the three internal resistors.", 5 R3 "Connection points to the three internal resistors.", 6 R2 "Connection points to the three internal resistors.", 7 SENSE (in) "The inverting terminal of the error amplifier used as both the voltage sense input to the error amplifier and its other compensation point. The error amplifier uses the SENSE input to compare against the 1.3V on-chip (See Datasheet)", 8 GND (power) "The reference and power ground for the device. The power ground of the output transistor is isolated on the chip from the substrate ground used to bias the remainder of the device."

## UC39431DG4
designator U?
Precision Adjustable Shunt Regulator, 2.2 to 36 V, 0 to 70 degC, 8-pin SOIC (D), Green (RoHS & no Sb/Br); Manufacturer: Texas Instruments; PartNumber: UC39431DG4; On Board Reference: 2.82, 3.12, 5.1, 7.8, 10.42, 12.24/0.7%; Operating Supply Current(mA): 0.5; Operating Supply(Max)(V): 36; Operating Supply(Min)(V): 2.2; Output Current(A): 0.1; Rating: Catalog; Reference Voltage(V): 1.3; Vref tol(%): 0.8; DatasheetVersion: SLUS192; PackageVersion: revM, Jun-2011; PackageReference: D8; PackageDescription: 8-Pin Plastic Small Outline Integrated Circuit, 4.9 x 3.9 mm, Pitch 1.27 mm Pitch; Supplier 1: Digi-Key; Supplier Part Number 1: UC39431DG4-ND; Supplier 2: Newark; Supplier Part Number 2: 61K2008; Supplier 3: Mouser; Supplier Part Number 3: 595-UC39431DG4; Mounting Technology: Surface Mount; Code_JEDEC: MS-012AA; ComponentLink1Description: Datasheet; ComponentLink1URL: http://www.ti.com/general/docs/lit/getliterature.tsp?genericPartNumber=UC39431&fileType=pdf
footprint D8_N (SOIC, 8-Leads, Body 4.9x3.9mm, Pitch 1.27mm, IPC Medium Density)
footprint D8_L (SOIC, 8-Leads, Body 4.9x3.9mm, Pitch 1.27mm, IPC High Density)
footprint D8_M (SOIC, 8-Leads, Body 4.9x3.9mm, Pitch 1.27mm, IPC Low Density)
pins: 1 COLL (oc) "The collector of the output transistor with a maximum voltage of 36V. This pin is the output of the transconductance amplifier. The overall open loop voltage gain of the transconductance amplifier is gm . RL, where gm is (See Datasheet)", 2 COMP "The output of the error amplifier and the input to the transconductance amplifier. This pin is available to compensate the high frequency gain of the error amplifier. It is internally voltage limited to approximately 2.0V.", 3 VCC (power) "The power connection for the device. The minimum to maximum operating voltage is 2.2V to 36.0V. The quiescent current is typically 0.50mA.", 4 R1 "Connection points to the three internal resistors.", 5 R3 "Connection points to the three internal resistors.", 6 R2 "Connection points to the three internal resistors.", 7 SENSE (in) "The inverting terminal of the error amplifier used as both the voltage sense input to the error amplifier and its other compensation point. The error amplifier uses the SENSE input to compare against the 1.3V on-chip (See Datasheet)", 8 GND (power) "The reference and power ground for the device. The power ground of the output transistor is isolated on the chip from the substrate ground used to bias the remainder of the device."

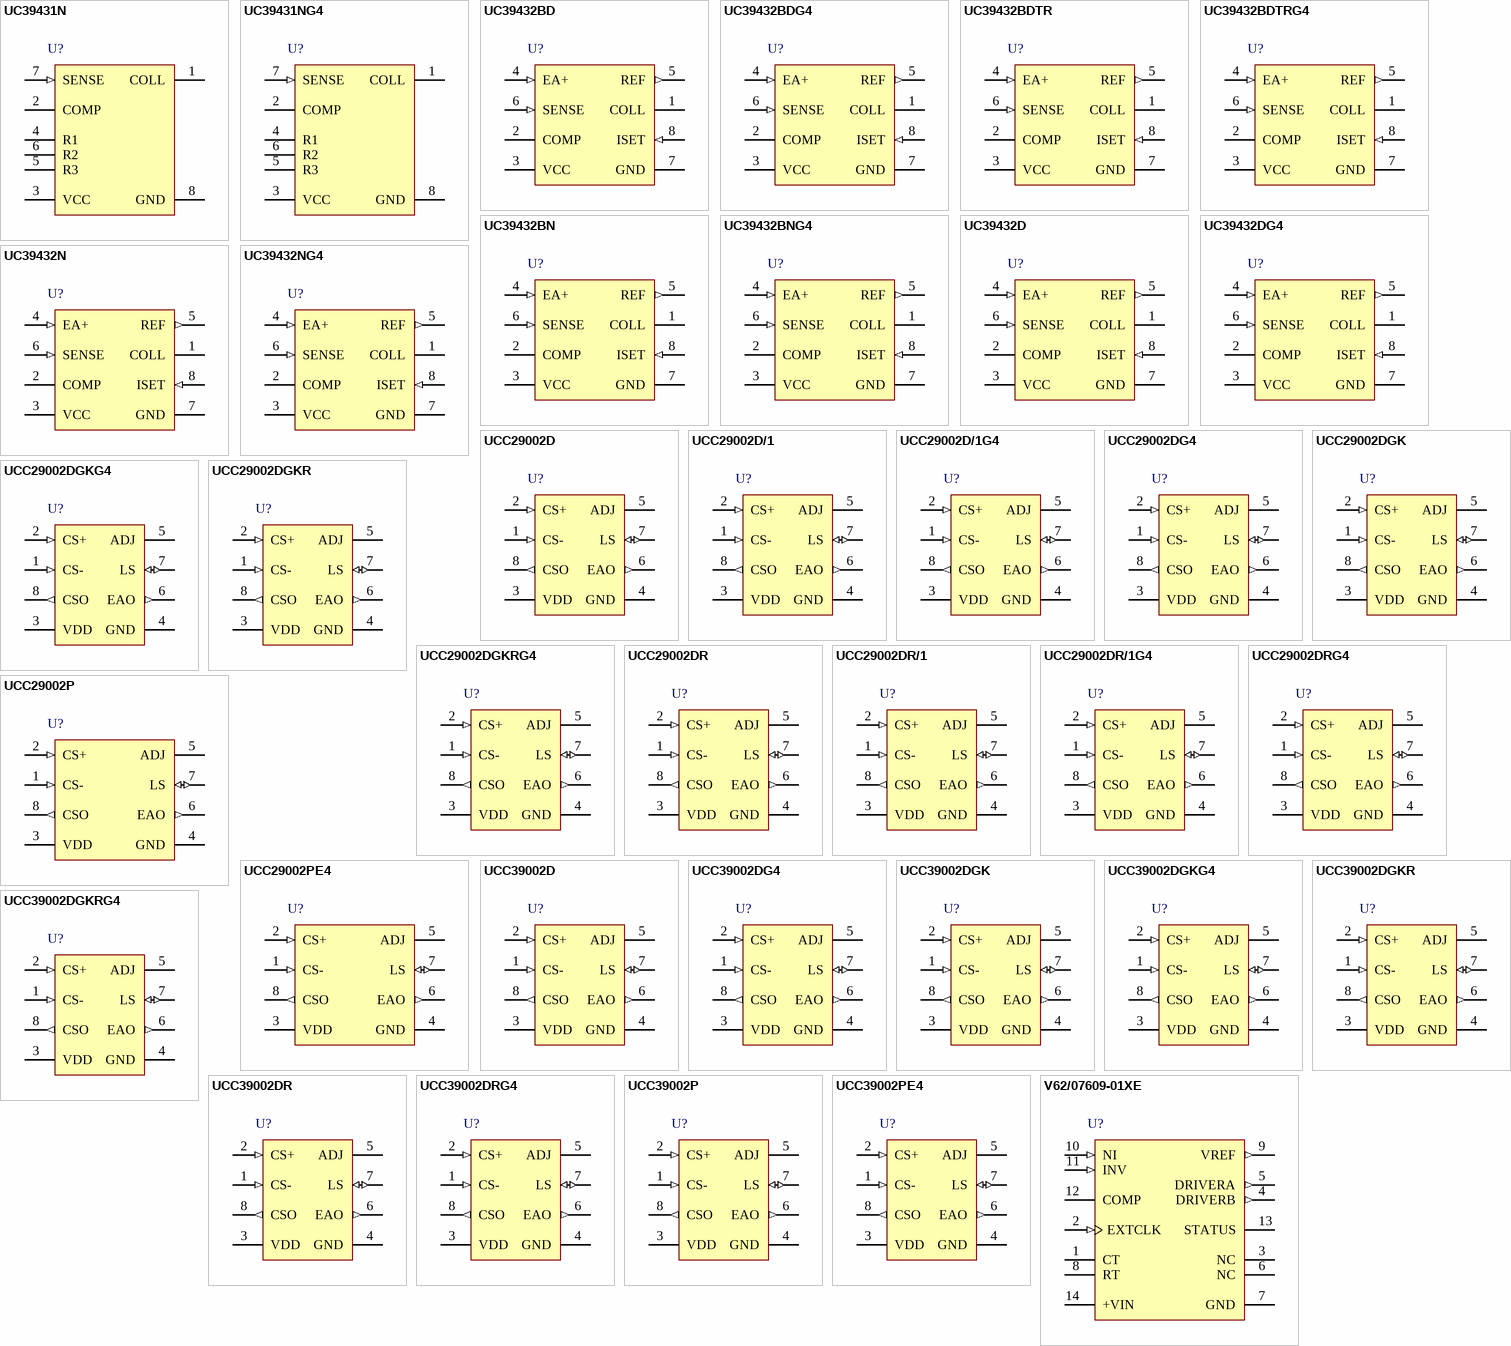
[diagram p2: symbols UC39431N to V62/07609-01XE]

## UC39431N
designator U?
Precision Adjustable Shunt Regulator, 2.2 to 36 V, 0 to 70 degC, 8-pin PDIP (P), Green (RoHS & no Sb/Br); Manufacturer: Texas Instruments; PartNumber: UC39431N; On Board Reference: 2.82, 3.12, 5.1, 7.8, 10.42, 12.24/0.7%; Operating Supply Current(mA): 0.5; Operating Supply(Max)(V): 36; Operating Supply(Min)(V): 2.2; Output Current(A): 0.1; Rating: Catalog; Reference Voltage(V): 1.3; Vref tol(%): 0.8; DatasheetVersion: SLUS192; PackageVersion: revE, Apr-2010; PackageReference: P8; PackageDescription: 8-Pin Plastic Dual-In-Line Package, Row Spacing 7.62 mm, Pitch 2.54 mm; Supplier 1: Digi-Key; Supplier Part Number 1: 296-11349-5-ND; Supplier 2: Newark; Supplier Part Number 2: 77C3488; Supplier 3: Mouser; Supplier Part Number 3: 595-UC39431N; Mounting Technology: Through Hole; Code_JEDEC: MS-001-BA; ComponentLink1Description: Datasheet; ComponentLink1URL: http://www.ti.com/general/docs/lit/getliterature.tsp?genericPartNumber=UC39431&fileType=pdf
footprint P8 (DIP, 8-Leads, Row Spacing 7.62mm, Pitch 2.54mm, Body 9.6x6.4mm)
pins: 1 COLL (oc) "The collector of the output transistor with a maximum voltage of 36V. This pin is the output of the transconductance amplifier. The overall open loop voltage gain of the transconductance amplifier is gm .  RL, where gm is (See Datasheet)", 2 COMP "The output of the error amplifier and the input to the transconductance amplifier. This pin is available to compensate the high frequency gain of the error amplifier. It is internally voltage limited to approximately 2.0V.", 3 VCC (power) "The power connection for the device. The minimum to maximum operating voltage is 2.2V to 36.0V. The quiescent current is typically 0.50mA.", 4 R1 "Connection points to the three internal resistors.", 5 R3 "Connection points to the three internal resistors.", 6 R2 "Connection points to the three internal resistors.", 7 SENSE (in) "The inverting terminal of the error amplifier used as both the voltage sense input to the error amplifier and its other compensation point. The error amplifier uses the SENSE input to compare against the 1.3V on-chip (See Datasheet)", 8 GND (power) "The reference and power ground for the device. The power ground of the output transistor is isolated on the chip from the substrate ground used to bias the remainder of the device."

## UC39431NG4
designator U?
Precision Adjustable Shunt Regulator, 2.2 to 36 V, 0 to 70 degC, 8-pin PDIP (P), Green (RoHS & no Sb/Br); Manufacturer: Texas Instruments; PartNumber: UC39431NG4; On Board Reference: 2.82, 3.12, 5.1, 7.8, 10.42, 12.24/0.7%; Operating Supply Current(mA): 0.5; Operating Supply(Max)(V): 36; Operating Supply(Min)(V): 2.2; Output Current(A): 0.1; Rating: Catalog; Reference Voltage(V): 1.3; Vref tol(%): 0.8; DatasheetVersion: SLUS192; PackageVersion: revE, Apr-2010; PackageReference: P8; PackageDescription: 8-Pin Plastic Dual-In-Line Package, Row Spacing 7.62 mm, Pitch 2.54 mm; Supplier 1: Digi-Key; Supplier Part Number 1: UC39431NG4-ND; Supplier 2: Newark; Supplier Part Number 2: 70K6041; Supplier 3: Mouser; Supplier Part Number 3: 595-UC39431NG4; Mounting Technology: Through Hole; Code_JEDEC: MS-001-BA; ComponentLink1Description: Datasheet; ComponentLink1URL: http://www.ti.com/general/docs/lit/getliterature.tsp?genericPartNumber=UC39431&fileType=pdf
footprint P8 (DIP, 8-Leads, Row Spacing 7.62mm, Pitch 2.54mm, Body 9.6x6.4mm)
pins: 1 COLL (oc) "The collector of the output transistor with a maximum voltage of 36V. This pin is the output of the transconductance amplifier. The overall open loop voltage gain of the transconductance amplifier is gm .  RL, where gm is (See Datasheet)", 2 COMP "The output of the error amplifier and the input to the transconductance amplifier. This pin is available to compensate the high frequency gain of the error amplifier. It is internally voltage limited to approximately 2.0V.", 3 VCC (power) "The power connection for the device. The minimum to maximum operating voltage is 2.2V to 36.0V. The quiescent current is typically 0.50mA.", 4 R1 "Connection points to the three internal resistors.", 5 R3 "Connection points to the three internal resistors.", 6 R2 "Connection points to the three internal resistors.", 7 SENSE (in) "The inverting terminal of the error amplifier used as both the voltage sense input to the error amplifier and its other compensation point. The error amplifier uses the SENSE input to compare against the 1.3V on-chip (See Datasheet)", 8 GND (power) "The reference and power ground for the device. The power ground of the output transistor is isolated on the chip from the substrate ground used to bias the remainder of the device."

## UC39432BD
designator U?
Precision Analog Controller, 2.2 to 36 V, 0 to 70 degC, 8-pin SOIC (D), Green (RoHS & no Sb/Br); Manufacturer: Texas Instruments; PartNumber: UC39432BD; On Board Reference: 1.3; Operating Supply Current(mA): 0.5; Operating Supply(Max)(V): 36; Operating Supply(Min)(V): 2.2; Output Current(A): 0.1; Rating: Catalog; Vref tol(%): 0.8; DatasheetVersion: SLUS301A; PackageVersion: revM, Jun-2011; PackageReference: D8; PackageDescription: 8-Pin Plastic Small Outline Integrated Circuit, 4.9 x 3.9 mm, Pitch 1.27 mm Pitch; Supplier 1: Digi-Key; Supplier Part Number 1: 296-34744-5-ND; Supplier 2: Newark; Supplier Part Number 2: 77C3489; Supplier 3: Mouser; Supplier Part Number 3: 595-UC39432BD; Reference Voltage(V): 1.3; Mounting Technology: Surface Mount; Code_JEDEC: MS-012AA; ComponentLink1Description: Datasheet; ComponentLink1URL: http://www.ti.com/general/docs/lit/getliterature.tsp?genericPartNumber=UC39432&fileType=pdf
footprint D8_N (SOIC, 8-Leads, Body 4.9x3.9mm, Pitch 1.27mm, IPC Medium Density)
footprint D8_L (SOIC, 8-Leads, Body 4.9x3.9mm, Pitch 1.27mm, IPC High Density)
footprint D8_M (SOIC, 8-Leads, Body 4.9x3.9mm, Pitch 1.27mm, IPC Low Density)
pins: 1 COLL (oc) "The collector of the output transistor with a maximum voltage of 36V. This pin is the output of the transconductance amplifier. The overall open loop voltage gain of the transconductance amplifier is gm . RL, where gm is (See Datasheet)", 2 COMP "The output of the error amplifier and the input to the transconductance amplifier. This pin is available to compensate the high frequency gain of the error amplifier. It is internally voltage limited to approximately 2.0V.", 3 VCC (power) "The power connection for the device. The minimum to maximum operating voltage is 2.2V to 36.0V. The quiescent current is typically 0.50mA.", 4 EA+ (in) "The non-inverting input to the error amplifier.", 5 REF (out) "The output of the trimmed precision reference.It can source or sink 10 uA and still maintain the 1% temperature specification.", 6 SENSE (in) "The inverting terminal of the error amplifier used as both the voltage sense input to the error amplifier and its other compensation point. The error amplifier uses the SENSE input to compare against the 1.3V on-chip (See Datasheet)", 7 GND (power) "The reference and power ground for the device. The power ground of the output transistor is isolated on the chip from the substrate ground used to bias the remainder of the device.", 8 ISET (in) "The current set pin for the transconductance amplifier.The transconductance will be -140mS as specified in the electrical table if this pin is grounded.If a resistsnce RL is added to the ISET pin, the resulting new (See Datasheet)"

## UC39432BDG4
designator U?
Precision Analog Controller, 2.2 to 36 V, 0 to 70 degC, 8-pin SOIC (D), Green (RoHS & no Sb/Br); Manufacturer: Texas Instruments; PartNumber: UC39432BDG4; On Board Reference: 1.3; Operating Supply Current(mA): 0.5; Operating Supply(Max)(V): 36; Operating Supply(Min)(V): 2.2; Output Current(A): 0.1; Rating: Catalog; Vref tol(%): 0.8; DatasheetVersion: SLUS301A; PackageVersion: revM, Jun-2011; PackageReference: D8; PackageDescription: 8-Pin Plastic Small Outline Integrated Circuit, 4.9 x 3.9 mm, Pitch 1.27 mm Pitch; Supplier 1: Digi-Key; Supplier Part Number 1: UC39432BDG4-ND; Supplier 2: Newark; Supplier Part Number 2: 58K7143; Supplier 3: Mouser; Supplier Part Number 3: 595-UC39432BDG4; Reference Voltage(V): 1.3; Mounting Technology: Surface Mount; Code_JEDEC: MS-012AA; ComponentLink1Description: Datasheet; ComponentLink1URL: http://www.ti.com/general/docs/lit/getliterature.tsp?genericPartNumber=UC39432&fileType=pdf
footprint D8_N (SOIC, 8-Leads, Body 4.9x3.9mm, Pitch 1.27mm, IPC Medium Density)
footprint D8_L (SOIC, 8-Leads, Body 4.9x3.9mm, Pitch 1.27mm, IPC High Density)
footprint D8_M (SOIC, 8-Leads, Body 4.9x3.9mm, Pitch 1.27mm, IPC Low Density)
pins: 1 COLL (oc) "The collector of the output transistor with a maximum voltage of 36V. This pin is the output of the transconductance amplifier. The overall open loop voltage gain of the transconductance amplifier is gm . RL, where gm is (See Datasheet)", 2 COMP "The output of the error amplifier and the input to the transconductance amplifier. This pin is available to compensate the high frequency gain of the error amplifier. It is internally voltage limited to approximately 2.0V.", 3 VCC (power) "The power connection for the device. The minimum to maximum operating voltage is 2.2V to 36.0V. The quiescent current is typically 0.50mA.", 4 EA+ (in) "The non-inverting input to the error amplifier.", 5 REF (out) "The output of the trimmed precision reference.It can source or sink 10 uA and still maintain the 1% temperature specification.", 6 SENSE (in) "The inverting terminal of the error amplifier used as both the voltage sense input to the error amplifier and its other compensation point. The error amplifier uses the SENSE input to compare against the 1.3V on-chip (See Datasheet)", 7 GND (power) "The reference and power ground for the device. The power ground of the output transistor is isolated on the chip from the substrate ground used to bias the remainder of the device.", 8 ISET (in) "The current set pin for the transconductance amplifier.The transconductance will be -140mS as specified in the electrical table if this pin is grounded.If a resistsnce RL is added to the ISET pin, the resulting new (See Datasheet)"

## UC39432BDTR
designator U?
Precision Adjustable Shunt Regulator, 2.2 to 36 V, 0 to 70 degC, 8-pin SOIC (D), Green (RoHS & no Sb/Br); Manufacturer: Texas Instruments; PartNumber: UC39432BDTR; On Board Reference: 1.3; Operating Supply Current(mA): 0.5; Operating Supply(Max)(V): 36; Operating Supply(Min)(V): 2.2; Output Current(A): 0.13; Rating: Catalog; Vref tol(%): 1; DatasheetVersion: SLUS301A; PackageVersion: revM, Jun-2011; PackageReference: D8; PackageDescription: 8-Pin Plastic Small Outline Integrated Circuit, 4.9 x 3.9 mm, Pitch 1.27 mm Pitch; Supplier 1: Digi-Key; Supplier Part Number 1: UC39432BDTR-ND; Supplier 2: Newark; Supplier Part Number 2: 77C3490; Supplier 3: Mouser; Supplier Part Number 3: 595-UC39432BDTR; Reference Voltage(V): 1.3; Mounting Technology: Surface Mount; Code_JEDEC: MS-012AA; ComponentLink1Description: Datasheet; ComponentLink1URL: http://www.ti.com/general/docs/lit/getliterature.tsp?genericPartNumber=UC39432B&fileType=pdf
footprint D8_N (SOIC, 8-Leads, Body 4.9x3.9mm, Pitch 1.27mm, IPC Medium Density)
footprint D8_L (SOIC, 8-Leads, Body 4.9x3.9mm, Pitch 1.27mm, IPC High Density)
footprint D8_M (SOIC, 8-Leads, Body 4.9x3.9mm, Pitch 1.27mm, IPC Low Density)
pins: 1 COLL (oc) "The collector of the output transistor with a maximum voltage of 36V. This pin is the output of the transconductance amplifier. The overall open loop voltage gain of the transconductance amplifier is gm .  RL, where gm is (See Datasheet)", 2 COMP "The output of the error amplifier and the input to the transconductance amplifier. This pin is available to compensate the high frequency gain of the error amplifier. It is internally voltage limited to approximately 2.0V.", 3 VCC (power) "The power connection for the device. The minimum to maximum operating voltage is 2.2V to 36.0V. The quiescent current is typically 0.50mA.", 4 EA+ (in) "The non-inverting input to the error amplifier.", 5 REF (out) "The output of the trimmed precision reference.It can source or sink 10 uA and still maintain the 1% temperature specification.", 6 SENSE (in) "The inverting terminal of the error amplifier used as both the voltage sense input to the error amplifier and its other compensation point. The error amplifier uses the SENSE input to compare against the 1.3V on-chip (See Datasheet)", 7 GND (power) "The reference and power ground for the device. The power ground of the output transistor is isolated on the chip from the substrate ground used to bias the remainder of the device.", 8 ISET (in) "The current set pin for the transconductance amplifier."

## UC39432BDTRG4
designator U?
Precision Adjustable Shunt Regulator, 2.2 to 36 V, 0 to 70 degC, 8-pin SOIC (D), Green (RoHS & no Sb/Br); Manufacturer: Texas Instruments; PartNumber: UC39432BDTRG4; On Board Reference: 1.3; Operating Supply Current(mA): 0.5; Operating Supply(Max)(V): 36; Operating Supply(Min)(V): 2.2; Output Current(A): 0.13; Rating: Catalog; Vref tol(%): 1; DatasheetVersion: SLUS301A; PackageVersion: revM, Jun-2011; PackageReference: D8; PackageDescription: 8-Pin Plastic Small Outline Integrated Circuit, 4.9 x 3.9 mm, Pitch 1.27 mm Pitch; Supplier 1: Digi-Key; Supplier Part Number 1: UC39432BDTRG4-ND; Supplier 2: Newark; Supplier Part Number 2: 54K2369; Supplier 3: Mouser; Supplier Part Number 3: 595-UC39432BDTRG4; Reference Voltage(V): 1.3; Mounting Technology: Surface Mount; Code_JEDEC: MS-012AA; ComponentLink1Description: Datasheet; ComponentLink1URL: http://www.ti.com/general/docs/lit/getliterature.tsp?genericPartNumber=UC39432B&fileType=pdf
footprint D8_N (SOIC, 8-Leads, Body 4.9x3.9mm, Pitch 1.27mm, IPC Medium Density)
footprint D8_L (SOIC, 8-Leads, Body 4.9x3.9mm, Pitch 1.27mm, IPC High Density)
footprint D8_M (SOIC, 8-Leads, Body 4.9x3.9mm, Pitch 1.27mm, IPC Low Density)
pins: 1 COLL (oc) "The collector of the output transistor with a maximum voltage of 36V. This pin is the output of the transconductance amplifier. The overall open loop voltage gain of the transconductance amplifier is gm .  RL, where gm is (See Datasheet)", 2 COMP "The output of the error amplifier and the input to the transconductance amplifier. This pin is available to compensate the high frequency gain of the error amplifier. It is internally voltage limited to approximately 2.0V.", 3 VCC (power) "The power connection for the device. The minimum to maximum operating voltage is 2.2V to 36.0V. The quiescent current is typically 0.50mA.", 4 EA+ (in) "The non-inverting input to the error amplifier.", 5 REF (out) "The output of the trimmed precision reference.It can source or sink 10 uA and still maintain the 1% temperature specification.", 6 SENSE (in) "The inverting terminal of the error amplifier used as both the voltage sense input to the error amplifier and its other compensation point. The error amplifier uses the SENSE input to compare against the 1.3V on-chip (See Datasheet)", 7 GND (power) "The reference and power ground for the device. The power ground of the output transistor is isolated on the chip from the substrate ground used to bias the remainder of the device.", 8 ISET (in) "The current set pin for the transconductance amplifier."

## UC39432BN
designator U?
Precision Analog Controller, 2.2 to 36 V, 0 to 70 degC, 8-pin PDIP (P), Green (RoHS & no Sb/Br); Manufacturer: Texas Instruments; PartNumber: UC39432BN; On Board Reference: 1.3; Operating Supply Current(mA): 0.5; Operating Supply(Max)(V): 36; Operating Supply(Min)(V): 2.2; Output Current(A): 0.1; Rating: Catalog; Vref tol(%): 0.8; DatasheetVersion: SLUS301A; PackageVersion: revE, Apr-2010; PackageReference: P8; PackageDescription: 8-Pin Plastic Dual-In-Line Package, Row Spacing 7.62 mm, Pitch 2.54 mm; Supplier 1: Digi-Key; Supplier Part Number 1: 296-34745-5-ND; Supplier 2: Newark; Supplier Part Number 2: 77C3491; Supplier 3: Mouser; Supplier Part Number 3: 595-UC39432BN; Reference Voltage(V): 1.3; Mounting Technology: Through Hole; Code_JEDEC: MS-001-BA; ComponentLink1Description: Datasheet; ComponentLink1URL: http://www.ti.com/general/docs/lit/getliterature.tsp?genericPartNumber=UC39432&fileType=pdf
footprint P8 (DIP, 8-Leads, Row Spacing 7.62mm, Pitch 2.54mm, Body 9.6x6.4mm)
pins: 1 COLL (oc) "The collector of the output transistor with a maximum voltage of 36V. This pin is the output of the transconductance amplifier. The overall open loop voltage gain of the transconductance amplifier is gm . RL, where gm is (See Datasheet)", 2 COMP "The output of the error amplifier and the input to the transconductance amplifier. This pin is available to compensate the high frequency gain of the error amplifier. It is internally voltage limited to approximately 2.0V.", 3 VCC (power) "The power connection for the device. The minimum to maximum operating voltage is 2.2V to 36.0V. The quiescent current is typically 0.50mA.", 4 EA+ (in) "The non-inverting input to the error amplifier.", 5 REF (out) "The output of the trimmed precision reference.It can source or sink 10 uA and still maintain the 1% temperature specification.", 6 SENSE (in) "The inverting terminal of the error amplifier used as both the voltage sense input to the error amplifier and its other compensation point. The error amplifier uses the SENSE input to compare against the 1.3V on-chip (See Datasheet)", 7 GND (power) "The reference and power ground for the device. The power ground of the output transistor is isolated on the chip from the substrate ground used to bias the remainder of the device.", 8 ISET (in) "The current set pin for the transconductance amplifier."